# EAGLE library part POLOLU_A4988 (library CMU-ArtFab)
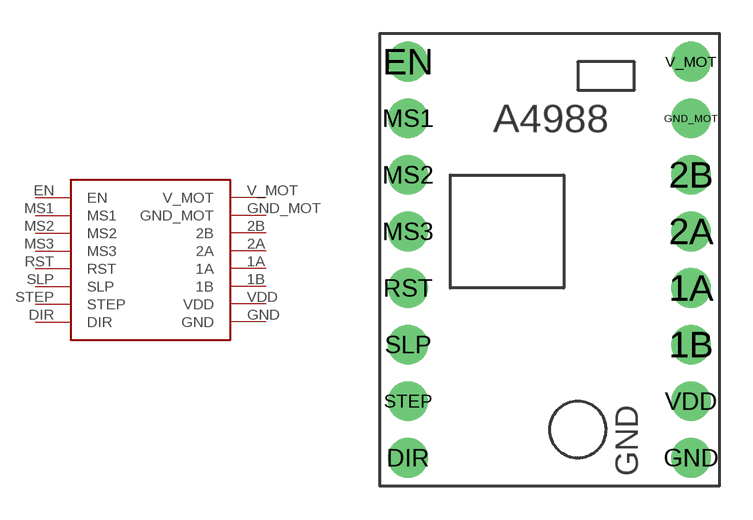
[diagram p6: symbol with the pads of POLOLU_A4988; footprint POLOLU_A4988]

Designator prefix -

## POLOLU_A4988  [POLOLU_A4988]
1A  1A
1B  1B
2A  2A
2B  2B
DIR  DIR
EN  EN
GND  GND
GND_MOT  GND_MOT
MS1  MS1
MS2  MS2
MS3  MS3
RST  RST
SLP  SLP
STEP  STEP
V_MOT  V_MOT
VDD  VDD

## Footprint POLOLU_A4988 (pad centres in mm)
drill 1.016 pad 1.778: 1A 6.35,-1.27; 1B 6.35,-3.81; 2A 6.35,1.27; 2B 6.35,3.81; DIR -6.35,-8.89; EN -6.35,8.89; GND 6.35,-8.89; GND_MOT 6.35,6.35; MS1 -6.35,6.35; MS2 -6.35,3.81; MS3 -6.35,1.27; RST -6.35,-1.27; SLP -6.35,-3.81; STEP -6.35,-6.35; V_MOT 6.35,8.89; VDD 6.35,-6.35